# Altium schematic symbol library PBL - Integrated Circuits.SCHLIB: 64 symbols (part 1 of 2)
Pins are listed as number, name and electrical type; pins without a type are passive.

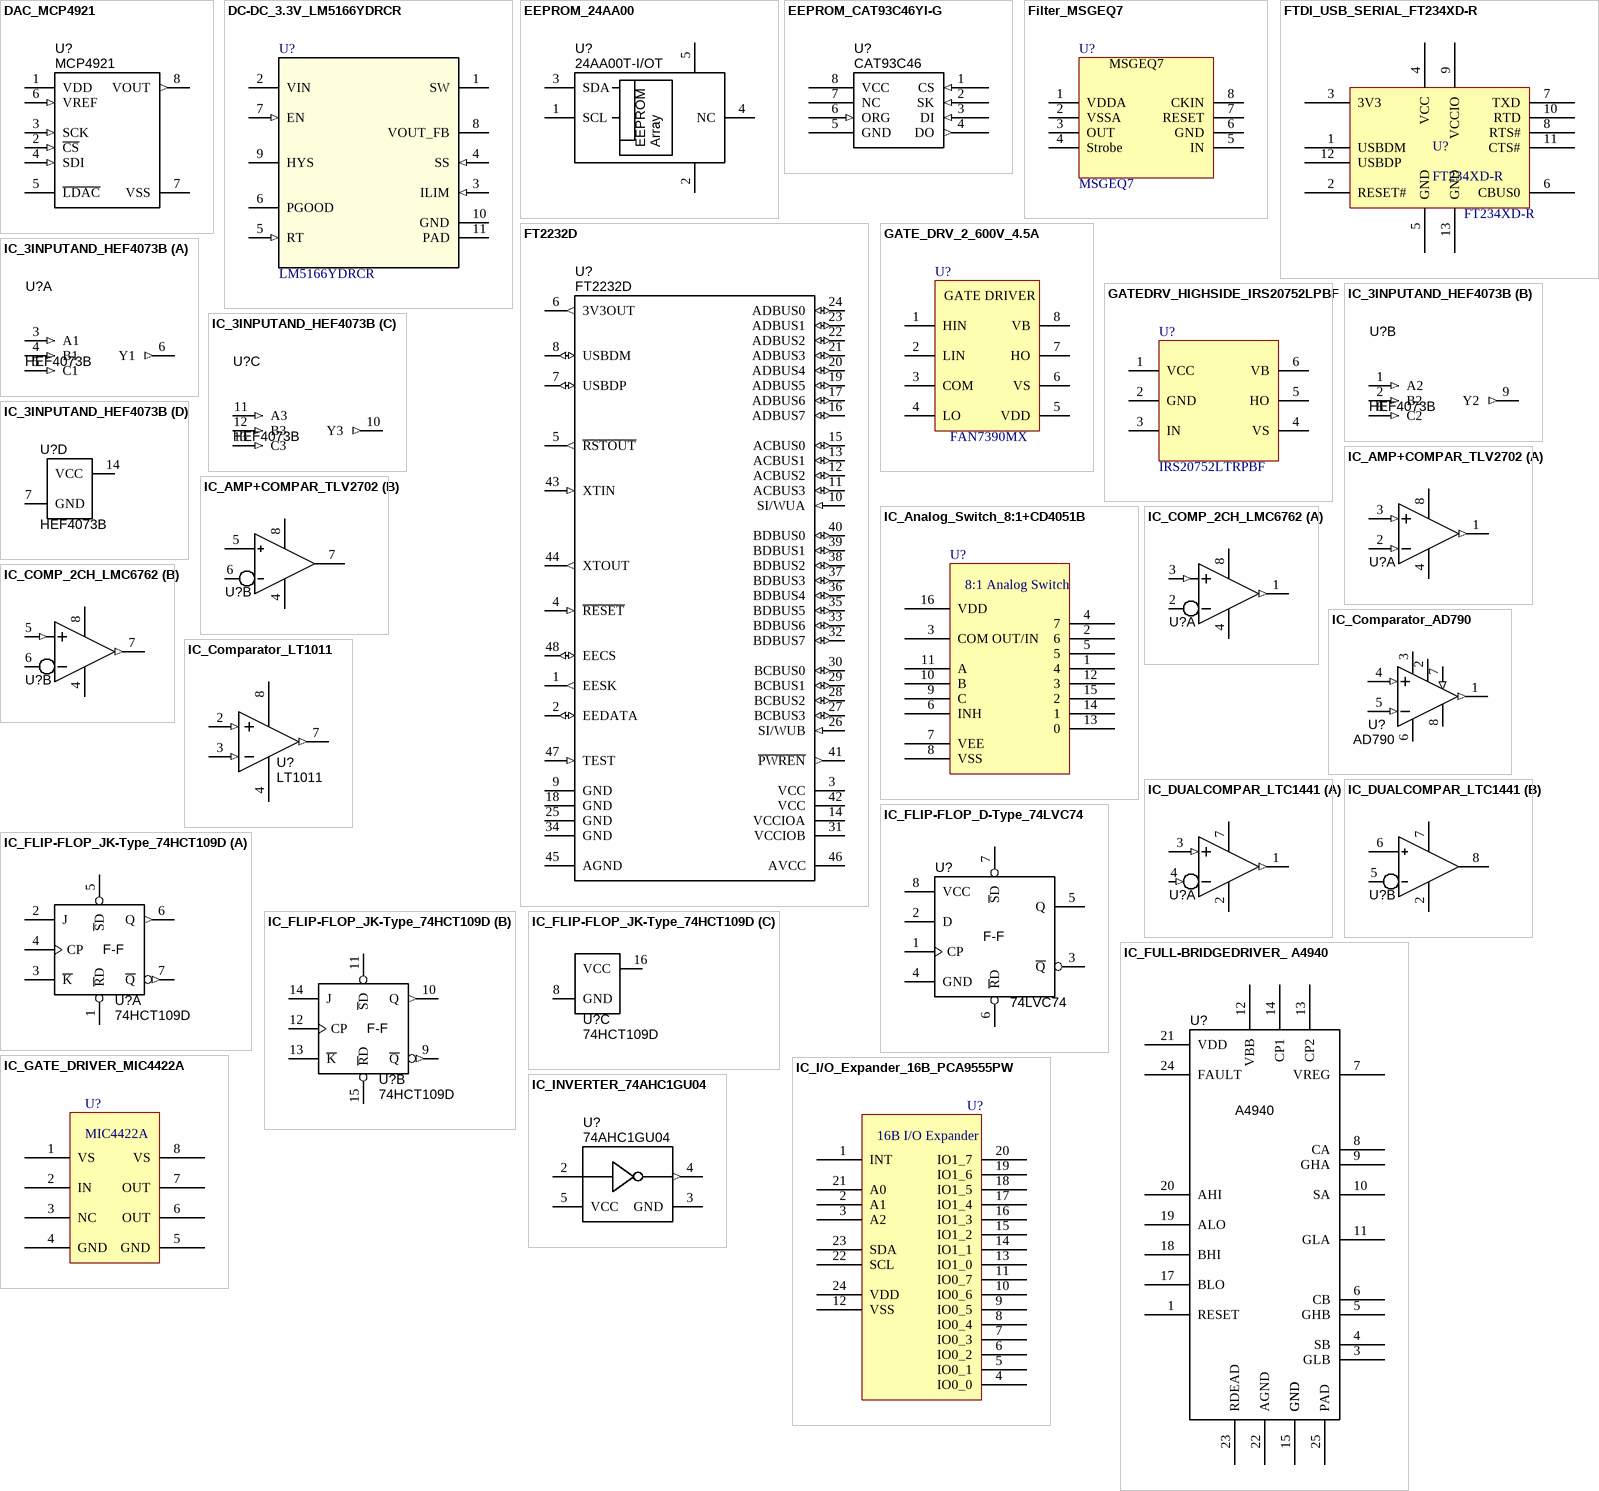
[diagram p0: symbols DAC_MCP4921 to IC_INVERTER_74AHC1GU04]

## DAC_MCP4921
designator U?, comment MCP4921
IC DAC 12-bit SPI 8-SOIC; Manufacturer 1: Microchip Technology; Manufacturer Part Number 1: MCP4921-E/SN; Speed: 4.5 µs; Interface: Serial, SPI; Voltage - Supply: 1.8 V ~ 5.5 V; Number of Bits: 12; Number of Converters: 1; SCDType: spec*; Operating Temperature: -40°C ~ 85°C; Package / Case: 8-SOIC (0.154", 3.90mm Width); Supplier 1: Digi-Key; Supplier Part Number 1: MCP4921-E/SN-ND
footprint SOIC127P600X175-8AN (SOIC, 8-Leads, Body 4.9x3.9mm, Pitch 1.27mm, IPC Medium Density)
pins: 1 VDD (power), 2 ~{CS} (in), 3 SCK (in), 4 SDI (in), 5 ~{LDAC} (power), 6 VREF (in), 7 VSS (power), 8 VOUT (out)

## DC-DC_3.3V_LM5166YDRCR
designator U?, comment LM5166YDRCR
Buck Switching Regulator IC Positive Fixed 3.3V 1 Output 500mA 10-VFDFN Exposed PadImported; Manufacturer: Texas Instruments; PartNumber: LM5166YDRCR; RefDes: RefDes; TYPE: TYPE; Value: Value; Manufacturer_Part_Number: LM5166YDRCR; Manufacturer_Name: Texas Instruments; Supplier 1: Digi-Key; Supplier Part Number 1: 296-47663-6-ND; Stock 1: 2280; Pricing 1: 1=3.48, 10=3.128, 100=2.5628, 500=2.1817, 1000=1.84 (USD); Number of Pins: 10; Min Operating Temperature: -40°C; Max Operating Temperature: 150°C; ComponentLink1URL: http://www.ti.com/lit/ds/symlink/lm5166.pdf; ComponentLink1Description: http://www.ti.com/lit/ds/symlink/lm5166.pdf; Manufacturer Part Number: LM5166YDRCR
footprint SON50P300X90_HS-11M (SON, 10-Leads, Body 3.00x3.00mm, Pitch 0.50mm, Thermal Pad 2.40x1.49mm, IPC Low Density)
pins: 1 SW (power), 2 VIN (power), 3 ILIM (in), 4 SS (in), 5 RT (in), 6 PGOOD (oc), 7 EN (in), 8 VOUT_FB, 9 HYS, 10 GND (power), 11 PAD (power)

## EEPROM_24AA00
designator U?, comment Manufacturer Part Number 1: 24AA00T-I/OT  (hidden comment: EEPROM)
EEPROM 128BIT 400KHZ SOT23-5; Manufacturer 1: Microchip Technology; Format - Memory: EEPROMs - Serial; Memory Size: 128 (16 x 8); Voltage - Supply: 1.7 V ~ 5.5 V; SCDType: spec*; Supplier 1: Digi-Key; Supplier Part Number 1: 24AA00T-I/OTCT-ND; RoHS: RoHS Compliant; Operating Temperature: -40°C ~ 85°C; Package / Case: SOT-23-5; Value: EEPROM
footprint SOT23-5
pins: 1 SCL, 2 GND, 3 SDA, 4 NC, 5 VCC
text: Array

## EEPROM_CAT93C46YI-G
designator U?, comment CAT93C46
EEPROM 1KBIT 2MHZ 8-TSSOP; Manufacturer 1: ON Semiconductor; Manufacturer Part Number 1: CAT93C46YI-G; Format - Memory: EEPROMs - Serial; Memory Size: 1K (128 x 8 or 64 x 16); Interface: Microwire, 3-Wire Serial; Voltage - Supply: 1.8 V ~ 5.5 V; Rule: UNIONINDEX{}0[]SOLDERMASKEXPANSIONMODE{}None[]PASTEMASKEXPANSIONMODE{}None[]RULEKIND{}Clearance[]NETSCOPE{}DifferentNets[]LAYERKIND{}SameLayer[]NAME{}Schematic Clearance Constraint[]GAP{}9.5mil[]UNIT{}Imperial[]PcbType{}ProtelPcb; SCDType: spec; Supplier 1: Digi-Key; Supplier Part Number 1: CAT93C46YI-G-ND; Memory Type: EEPROM; Speed: 2MHz; Operating Temperature: -40°C ~ 85°C; Package / Case: 8-TSSOP; Supplier Device Package: 8-TSSOP; ComponentLink1URL: http://www.onsemi.com/pub_link/Collateral/CAT93C46-D.PDF; ComponentLink1Description: http://www.onsemi.com/pub_link/Collateral/CAT93C46-D.PDF
footprint TSSOP65P640X120-8N (TSSOP, 8 Leads, Body 3.1x4.5mm (max), Pitch 0.65mm, IPC Medium Density)
pins: 1 CS (in), 2 SK (in), 3 DI (in), 4 DO (out), 5 GND (power), 6 ORG (in), 7 NC, 8 VCC (power)

## Filter_MSGEQ7
designator U?, comment MSGEQ7
Graphic Equalizer Display Filter - MSGEQ7; Manufacturer Part Number: MSGEQ7
footprint SOIC127P600X175-8AN (SOIC, 8-Leads, Body 4.9x3.9mm, Pitch 1.27mm, IPC Medium Density)
pins: 1 VDDA, 2 VSSA, 3 OUT, 4 Strobe, 5 IN, 6 GND, 7 RESET, 8 CKIN

## FT2232D
designator U?
Dual USB UART/FIFO Chip, LQFP-48; Manufacturer 1: FTDI, Future Technology Devices International Ltd; Manufacturer Part Number 1: FT2232D-REEL; Protocol: RS-232, RS-422, RS-485; Voltage - Supply: 4.35 V ~ 5.25 V; Rule: UNIONINDEX{}0[]SOLDERMASKEXPANSIONMODE{}None[]PASTEMASKEXPANSIONMODE{}None[]RULEKIND{}Clearance[]NETSCOPE{}DifferentNets[]LAYERKIND{}SameLayer[]NAME{}Schematic Clearance Constraint[]GAP{}7.874mil[]UNIT{}Metric[]PcbType{}ProtelPcb; SCDType: spec; DatasheetVersion: ver 2.05, Apr-2011; ComponentLink1Description: Manufacturer URL; ComponentLink1URL: http://www.ftdichip.com/; ComponentLink2Description: Datasheet; ComponentLink2URL: http://www.ftdichip.com/Support/Documents/DataSheets/ICs/DS_FT2232D.pdf; Supplier 1: Digi-Key; Supplier Part Number 1: 768-1010-1-ND; Package / Case: 48-LQFP
footprint LQFP-48_N (Thin QFP, 48-Leads, Body 7x7mm, Pitch 0.5mm, IPC Medium Density)
pins: 1 EESK (out), 2 EEDATA (io), 3 VCC (power), 4 ~{RESET} (in), 5 ~{RSTOUT} (out), 6 3V3OUT (out), 7 USBDP (io), 8 USBDM (io), 9 GND (power), 10 SI/WUA (in), 11 ACBUS3 (io), 12 ACBUS2 (io), 13 ACBUS1 (io), 14 VCCIOA (power), 15 ACBUS0 (io), 16 ADBUS7 (io), 17 ADBUS6 (io), 18 GND (power), 19 ADBUS5 (io), 20 ADBUS4 (io), 21 ADBUS3 (io), 22 ADBUS2 (io), 23 ADBUS1 (io), 24 ADBUS0 (io), 25 GND (power), 26 SI/WUB (in), 27 BCBUS3 (io), 28 BCBUS2 (io), 29 BCBUS1 (io), 30 BCBUS0 (io), 31 VCCIOB (power), 32 BDBUS7 (io), 33 BDBUS6 (io), 34 GND (power), 35 BDBUS5 (io), 36 BDBUS4 (io), 37 BDBUS3 (io), 38 BDBUS2 (io), 39 BDBUS1 (io), 40 BDBUS0 (io), 41 ~{PWREN} (out), 42 VCC (power), 43 XTIN (in), 44 XTOUT (out), 45 AGND (power), 46 AVCC (power), 47 TEST (in), 48 EECS (io)

## FTDI_USB_SERIAL_FT234XD-R
designator U?, comment FT234XD-R
IC USB SERIAL BASIC UART 12DFN; Manufacturer: FTDI; Internal Switch(s): 2.97 V ~ 5.5 V; Auxiliary Sense: -40°C ~ 85°C; Function: Bridge, USB to UART; Standards: USB 2.0; Current - Supply: 8mA; Dynamic Catalog: USB Controllers; Other Names: 768-1178-2 / FT234XDR; Supplier 1: Digi-Key; Supplier Part Number 1: 768-1178-1-ND; Stock 1: 62221; Pricing 1: 1=2.04, 25=1.97, 100=1.9, 250=1.71, 500=1.54, 1000=1.46, 2500=1.4214 (USD); Quantity Available: Tape & Reel (TR)Alternate Packaging; Minimum Quantity: USB; Type: UART; Standard Package: 5,000; Category: Integrated Circuits (ICs); Family: Interface - Controllers; Packaging: Tape & Reel (TR); Protocol: USB; Interface: UART; Voltage - Supply: 2.97 V ~ 5.5 V; Operating Temperature: -40°C ~ 85°C; Package / Case: 12-VFDFN Exposed Pad; Supplier Device Package: 12-DFN (3x3); ComponentLink1URL: https://datasheet.ciiva.com/15013/ds-ft234xd-15013687.pdf; ComponentLink1Description: https://datasheet.ciiva.com/15013/ds-ft234xd-15013687.pdf; ComponentLink2URL: https://datasheet.ciiva.com/15013/ds-ft234xd-15013688.pdf; ComponentLink2Description: https://datasheet.ciiva.com/15013/ds-ft234xd-15013688.pdf; ComponentLink3URL: https://datasheet.ciiva.com/15013/ds-ft234xd-15013689.pdf; ComponentLink3Description: https://datasheet.ciiva.com/15013/ds-ft234xd-15013689.pdf; ComponentLink4URL: https://datasheet.ciiva.com/46410/1812674-46410091.pdf; ComponentLink4Description: https://datasheet.ciiva.com/46410/1812674-46410091.pdf; Manufacturer Part Number: FT234XD-R
footprint DFN12 3x3
pins: 1 USBDM, 2 RESET#, 3 3V3, 4 VCC, 5 GND, 6 CBUS0, 7 TXD, 8 RTS#, 9 VCCIO, 10 RTD, 11 CTS#, 12 USBDP, 13 GND

## GATE_DRV_2_600V_4.5A
designator U?, comment FAN7390MX
Half-Bridge Gate Driver IC Non-Inverting 8-SOP; Manufacturer: Fairchild/ON Semiconductor; Channel Type: Independent; Gate Type: IGBT, N-Channel MOSFET; Voltage - Supply: 10 V ~ 22 V; Logic Voltage - VIL, VIH: 1.2V, 2.5V; Current - Peak Output (Source, Sink): 4.5A, 4.5A; Rise / Fall Time (Typ): 25ns, 20ns; Supplier 1: Digi-Key; Supplier Part Number 1: FAN7390MXCT-ND; RoHS: RoHS Compliant; Category: Integrated Circuits (ICs); Stock 1: 5064; Pricing 1: 1=1.79, 10=1.61, 100=1.2944, 500=1.06348, 1000=0.88117 (USD); Packaging: Cut Tape (CT); Part Status: Active; Driven Configuration: Half-Bridge; Input Type: Non-Inverting; Operating Temperature: -40°C ~ 150°C (TJ); Mounting Type: Surface Mount; Package / Case: 8-SOIC (0.154", 3.90mm Width); Supplier Device Package: 8-SOP; ComponentLink1URL: https://www.fairchildsemi.com/datasheets/FA/FAN7390.pdf; ComponentLink1Description: https://www.fairchildsemi.com/datasheets/FA/FAN7390.pdf; Manufacturer Part Number: FAN7390MX
footprint SOIC127P600X175-8AN (SOIC, 8-Leads, Body 4.9x3.9mm, Pitch 1.27mm, IPC Medium Density)
pins: 1 HIN, 2 LIN, 3 COM, 4 LO, 5 VDD, 6 VS, 7 HO, 8 VB
text: GATE DRIVER

## GATEDRV_HIGHSIDE_IRS20752LPBF
designator U?, comment IRS20752LTRPBF
High-Side Gate Driver IC Non-Inverting SOT-23-6; Manufacturer: Infineon Technologies; Channel Type: Single; Gate Type: N-Channel MOSFET; Voltage - Supply: 10 V ~ 18 V; Logic Voltage - VIL, VIH: 0.8V, 2.2V; Current - Peak Output (Source, Sink): 160mA, 240mA; Rise / Fall Time (Typ): 85ns, 40ns; Supplier 1: Digi-Key; Supplier Part Number 1: IRS20752LTRPBFCT-ND; RoHS: RoHS Compliant; Category: Integrated Circuits (ICs); Stock 1: 2832; Pricing 1: 1=0.87, 10=0.778, 100=0.6067, 500=0.50118, 1000=0.39567 (USD); Packaging: Cut Tape (CT); Part Status: Active; Driven Configuration: High-Side; Input Type: Non-Inverting; Operating Temperature: -40°C ~ 125°C (TJ); Mounting Type: Surface Mount; Package / Case: SOT-23-6; Supplier Device Package: SOT-23-6; ComponentLink1URL: https://www.infineon.com/dgdl/irs20752lpbf.pdf?fileId=5546d462533600a401535675e709278e; ComponentLink1Description: https://www.infineon.com/dgdl/irs20752lpbf.pdf?fileId=5546d462533600a401535675e709278e; Manufacturer Part Number: IRS20752LTRPBF
footprint SOT23-6
pins: 1 VCC, 2 GND, 3 IN, 4 VS, 5 HO, 6 VB

## IC_3INPUTAND_HEF4073B
designator U?, comment HEF4073B
IC SMD Triple 3-input AND SOIC-14; Manufacturer 1: NXP Semiconductors; Manufacturer Part Number 1: HEF4073BT,653; Logic Type: AND gate; Current - Output High, Low: 3mA, 3mA; Voltage - Supply: 3 V ~ 15 V; Ratings: -40°C ~ 85°C; SCDType: undef; Mounting Type: Surface Mount; Package / Case: 14-SOIC (0.154", 3.90mm Width); Supplier 1: Digi-Key; Supplier Part Number 1: 568-7700-1-ND; ComponentLink1URL: http://www.nxp.com/documents/data_sheet/HEF4073B_CNV.pdf; ComponentLink1Description: HEF4073B datasheet
footprint SOIC127P600X175-14AN (SOIC, 1.27mm pitch, 14 pin, Body 8.65x3.90mm)
part A pins: 3 A1 (in), 4 B1 (in), 5 C1 (in), 6 Y1 (out)
part B pins: 1 A2 (in), 2 B2 (in), 8 C2 (in), 9 Y2 (out)
part C pins: 10 Y3 (out), 11 A3 (in), 12 B3 (in), 13 C3 (in)
part D pins: 7 GND (power), 14 VCC (power)

## IC_AMP+COMPAR_TLV2702
designator U?, comment TLV2702  (value not drawn)
IC SMD AMP+COMPAR Combo SOIC-8; Manufacturer 1: Texas Instruments; Manufacturer Part Number 1: TLV2702ID; Voltage - Supply: 2.7 V ~ 16 V, ±1.35 V ~ 8 V; SCDType: undef; Package / Case: 8-SOIC (0.154", 3.90mm Width); Supplier 1: Digi-Key; Supplier Part Number 1: 296-12503-5-ND
footprint SOIC127P600X175-8AN (SOIC, 8-Leads, Body 4.9x3.9mm, Pitch 1.27mm, IPC Medium Density)
pins on every part: 4 -Vs (power), 8 +Vs (power)
part A pins: 1 Aout (out), 2 AIN - (in), 3 AIN + (in)
part B pins: 5 CIN +, 6  CIN-, 7 Cout

## IC_Analog_Switch_8:1+CD4051B
designator U?, comment CD4051BPWR  (value not drawn)
IC MUX/DEMUX 8X1 16TSSOP; Supplier 1: Digi-Key; Supplier Part Number 1: 296-11993-1-ND
footprint TSSOP65P640X120-16N (TSSOP, 16 Leads, Body 5.1x4.5mm (max), Pitch 0.65mm, IPC Medium Density)
pins: 1 4, 2 6, 3 COM OUT/IN, 4 7, 5, 6 INH, 7 VEE, 8 VSS, 9 C, 10 B, 11 A, 12 3, 13 0, 14 1, 15 2, 16 VDD
text: 8:1 Analog Switch

## IC_COMP_2CH_LMC6762
designator U?, comment LMC6762  (value not drawn)
IC Dual Rail-Rail PP Comparator SOIC-8 SMD; Manufacturer 1: National Semiconductor; Manufacturer Part Number 1: LMC6762BIM/NOPB; Voltage - Supply: 2.7 V ~ 16 V, ±1.35 V ~ 8 V; Number of Elements: 2; Output Type: Push-Pull, Rail-to-Rail; SCDType: spec; Package / Case: 8-SOIC (0.154", 3.90mm Width); Supplier 1: Digi-Key; Supplier Part Number 1: LMC6762BIM-ND; ComponentLink1URL: http://www.ti.com/lit/ds/symlink/lmc6762.pdf; ComponentLink1Description: http://www.ti.com/lit/ds/symlink/lmc6762.pdf
footprint SOIC127P600X175-8AN (SOIC, 8-Leads, Body 4.9x3.9mm, Pitch 1.27mm, IPC Medium Density)
pins on every part: 4 V- (power), 8 V+ (power)
part A pins: 1 OUT A (out), 2 IN A- (in), 3 IN A+ (in)
part B pins: 5 IN B+ (in), 6 IN B- (in), 7 OUT B (out)

## IC_Comparator_AD790
designator U?, comment AD790
IC SMD Voltage Comparator SOIC-8; Manufacturer 1: Analog Devices Inc; Manufacturer Part Number 1: AD790JRZ; Voltage - Supply: 2.7 V ~ 16 V, ±1.35 V ~ 8 V; SCDType: spec?; Package / Case: 8-SOIC (0.154", 3.90mm Width); Supplier 1: Digi-Key; Supplier Part Number 1: AD790JRZ-ND
footprint SOIC127P600X175-8AN (SOIC, 8-Leads, Body 4.9x3.9mm, Pitch 1.27mm, IPC Medium Density)
pins: 1 OUT (out), 2 Vlogic (power), 3 +Vs (power), 4 +IN (in), 5 -IN (in), 6 -Vs (power), 7 ~{Latch} (in), 8 GND (power)

## IC_Comparator_LT1011
designator U?, comment LT1011
IC SMD Voltage Comparator SOIC-8; Manufacturer 1: Linear Technology; Manufacturer Part Number 1: LT1011CS8#PBF; Voltage - Supply: 2.7 V ~ 16 V, ±1.35 V ~ 8 V; SCDType: undef; Supplier 1: Digi-Key; Supplier Part Number 1: LT1011CS8#PBF-ND; Package / Case: 8-SOIC (0.154", 3.90mm Width)
footprint SOIC127P600X175-8AN (SOIC, 8-Leads, Body 4.9x3.9mm, Pitch 1.27mm, IPC Medium Density)
pins: 2 IN+ (in), 3 IN- (in), 4 V- (power), 7 OUT (out), 8 V+ (power)

## IC_DUALCOMPAR_LTC1441
designator U?, comment LTC1441  (value not drawn)
IC SMD Dual Comparator SOIC-8; Manufacturer 1: Texas Instruments; Manufacturer Part Number 1: LTC1441CS8#PBF; Voltage - Supply: 2.7 V ~ 16 V, ±1.35 V ~ 8 V; SCDType: undef; Package / Case: 8-SOIC (0.154", 3.90mm Width); Supplier 1: Digi-Key; Supplier Part Number 1: LTC1441CS8#PBF-ND
footprint SOIC127P600X175-8AN (SOIC, 8-Leads, Body 4.9x3.9mm, Pitch 1.27mm, IPC Medium Density)
pins on every part: 2 V- (power), 7 V+ (power)
part A pins: 1 OUT A (out), 3 IN A+ (in), 4 IN A- (in)
part B pins: 5 IN B-, 6 IN B+, 8 Out B

## IC_FLIP-FLOP_D-Type_74LVC74
designator U?, comment 74LVC74
IC Flip-Flop D-type TSSOP-8 SMD; Manufacturer 1: NXP Semiconductors; Manufacturer Part Number 1: 74LVC2G74DP,125; SCDType: spec; Value: 74LVC74; Supplier 1: Digi-Key; Supplier Part Number 1: 568-7681-1-ND; Package / Case: 8-TSSOP (0.118", 3.00mm Width)
footprint TSSOP65P400X110-8N (TSSOP, 8 Leads, Body 3.1x3.1mm (max), lead span 4.0mm, Pitch 0.65mm, IPC Medium Density)
pins: 1 CP, 2 D, 3 ~{Q}, 4 GND, 5 Q, 6 ~{R}D, 7 ~{S}D, 8 VCC
text: F-F

## IC_FLIP-FLOP_JK-Type_74HCT109D
designator U?, comment 74HCT109D
IC Flip-Flop JK-type SOIC-16 SMD; Manufacturer 1: NXP Semiconductors; Manufacturer Part Number 1: 74HCT109D,653; SCDType: undef; Value: 74HCT109D; Package / Case: 16-SOIC (0.154", 3.90mm Width); ComponentLink1URL: http://www.nxp.com/documents/data_sheet/74HC_HCT109_CNV.pdf; ComponentLink1Description: 74HCT109D datasheet; Supplier 1: Digi-Key; Supplier Part Number 1: 568-4577-1-ND
footprint SOIC127P600X175-16AN (SOIC, 1.27mm pitch, 16 pin, Body 9.9x3.90mm)
part A pins: 1 ~{R}D, 2 J, 3 ~{K}, 4 CP, 5 ~{S}D, 6 Q (out), 7 ~{Q} (out)
part B pins: 9 ~{Q} (out), 10 Q (out), 11 ~{S}D, 12 CP, 13 ~{K}, 14 J, 15 ~{R}D
part C pins: 8 GND (power), 16 VCC (power)
part A text: F-F
part B text: F-F

## IC_FULL-BRIDGEDRIVER_ A4940
designator U?, comment A4940
24-pin TSSOP Automotive Full Bridge MOSFET Driver; Manufacturer Part Number 1: A4940KLPTR-T; Manufacturer 1: Allegro Microsystems Inc; Input Type: Non-Inverting; Voltage - Supply: 5.5 V ~ 50 V; SCDType: undef; Supplier 1: Digi-Key; Package / Case: 24-TSSOP (0.173", 4.40mm Width) Exposed Pad; Supplier Part Number 1: 620-1319-1-ND; ComponentLink1URL: http://www.allegromicro.com/en/Products/Part_Numbers/4940/4940.pdf; ComponentLink1Description: A4940 Datasheet
footprint SOP65P640X110-25N (TSSOP, 24-Leads, Body 7.9x4.5mm (max), Pitch 0.65mm, IPC Medium Density; JEDEC MO-153)
pins: 1 RESET "reset input", 2 GND (power) "ground", 3 GLB "low-side gate drive B", 4 SB "load connection B", 5 GHB "high-side gate drive B", 6 CB "bootstrap capacitor B", 7 VREG "regulated 13V ouput", 8 CA "bootstrap capacitor A", 9 GHA "high-side gate drive A", 10 SA "load connection A", 11 GLA "low-side gate drive A", 12 VBB (power) "main supply", 13 CP2 "pump capacitor", 14 CP1 "pump capacitor", 15 GND (power) "ground", 16 GND (power) "ground", 17 BLO "control input B low side", 18 BHI "control input B high side", 19 ALO "control input A low side", 20 AHI "control input A high side", 21 VDD (power) "logic supply", 22 AGND (power) "ground reference", 23 RDEAD "dead time setting input", 24 FAULT "fault output", 25 PAD (power) "exposed die pad"

## IC_GATE_DRIVER_MIC4422A
designator U?, comment MIC4422A
IC DRIVER MOSFET 9A LS 8-DIP; Supplier 1: Digi-Key; Supplier Part Number 1: 576-2318-ND
footprint SOIC127P600X175-8AN (SOIC, 8-Leads, Body 4.9x3.9mm, Pitch 1.27mm, IPC Medium Density)
pins: 1 VS, 2 IN, 3 NC, 4 GND, 5 GND, 6 OUT, 7 OUT, 8 VS

## IC_I/O_Expander_16B_PCA9555PW
designator U?, comment PCA9555PW,118  (value not drawn)
IC I/O EXPANDER I2C 16B 24TSSOP; Supplier 1: Digi-Key; Supplier Part Number 1: 568-1058-1-ND
footprint TSOP65P640X110-24N (TSOP, 24-Leads, Body 7.80x4.40mm, Pitch 0.65mm, IPC Medium Density)
pins: 1 INT, 2 A1, 3 A2, 4 IO0_0, 5 IO0_1, 6 IO0_2, 7 IO0_3, 8 IO0_4, 9 IO0_5, 10 IO0_6, 11 IO0_7, 12 VSS, 13 IO1_0, 14 IO1_1, 15 IO1_2, 16 IO1_3, 17 IO1_4, 18 IO1_5, 19 IO1_6, 20 IO1_7, 21 A0, 22 SCL, 23 SDA, 24 VDD
text: 16B I/O Expander

## IC_INVERTER_74AHC1GU04
designator U?, comment 74AHC1GU04
IC Inverter SOT353 SMD; Manufacturer 1: NXP Semiconductors; Manufacturer Part Number 1: 74AHC1GU04GW,125; Voltage - Supply: 2 V ~ 5.5 V; SCDType: undef; Package / Case: 6-TSSOP (5 Lead), SC-88A, SOT-353; ComponentLink1URL: http://www.nxp.com/documents/data_sheet/74AHC1GU04.pdf; ComponentLink1Description: 74AHC1GU04 datasheet; Supplier 1: Digi-Key; Supplier Part Number 1: 568-4825-1-ND
footprint SOT353 (Small outline 2.1mm L x 1.25mm W x 1mm H; 5LD SC-70; SC-88A)
pins: 2 A, 3 GND (power), 4 Y (out), 5 VCC (power)

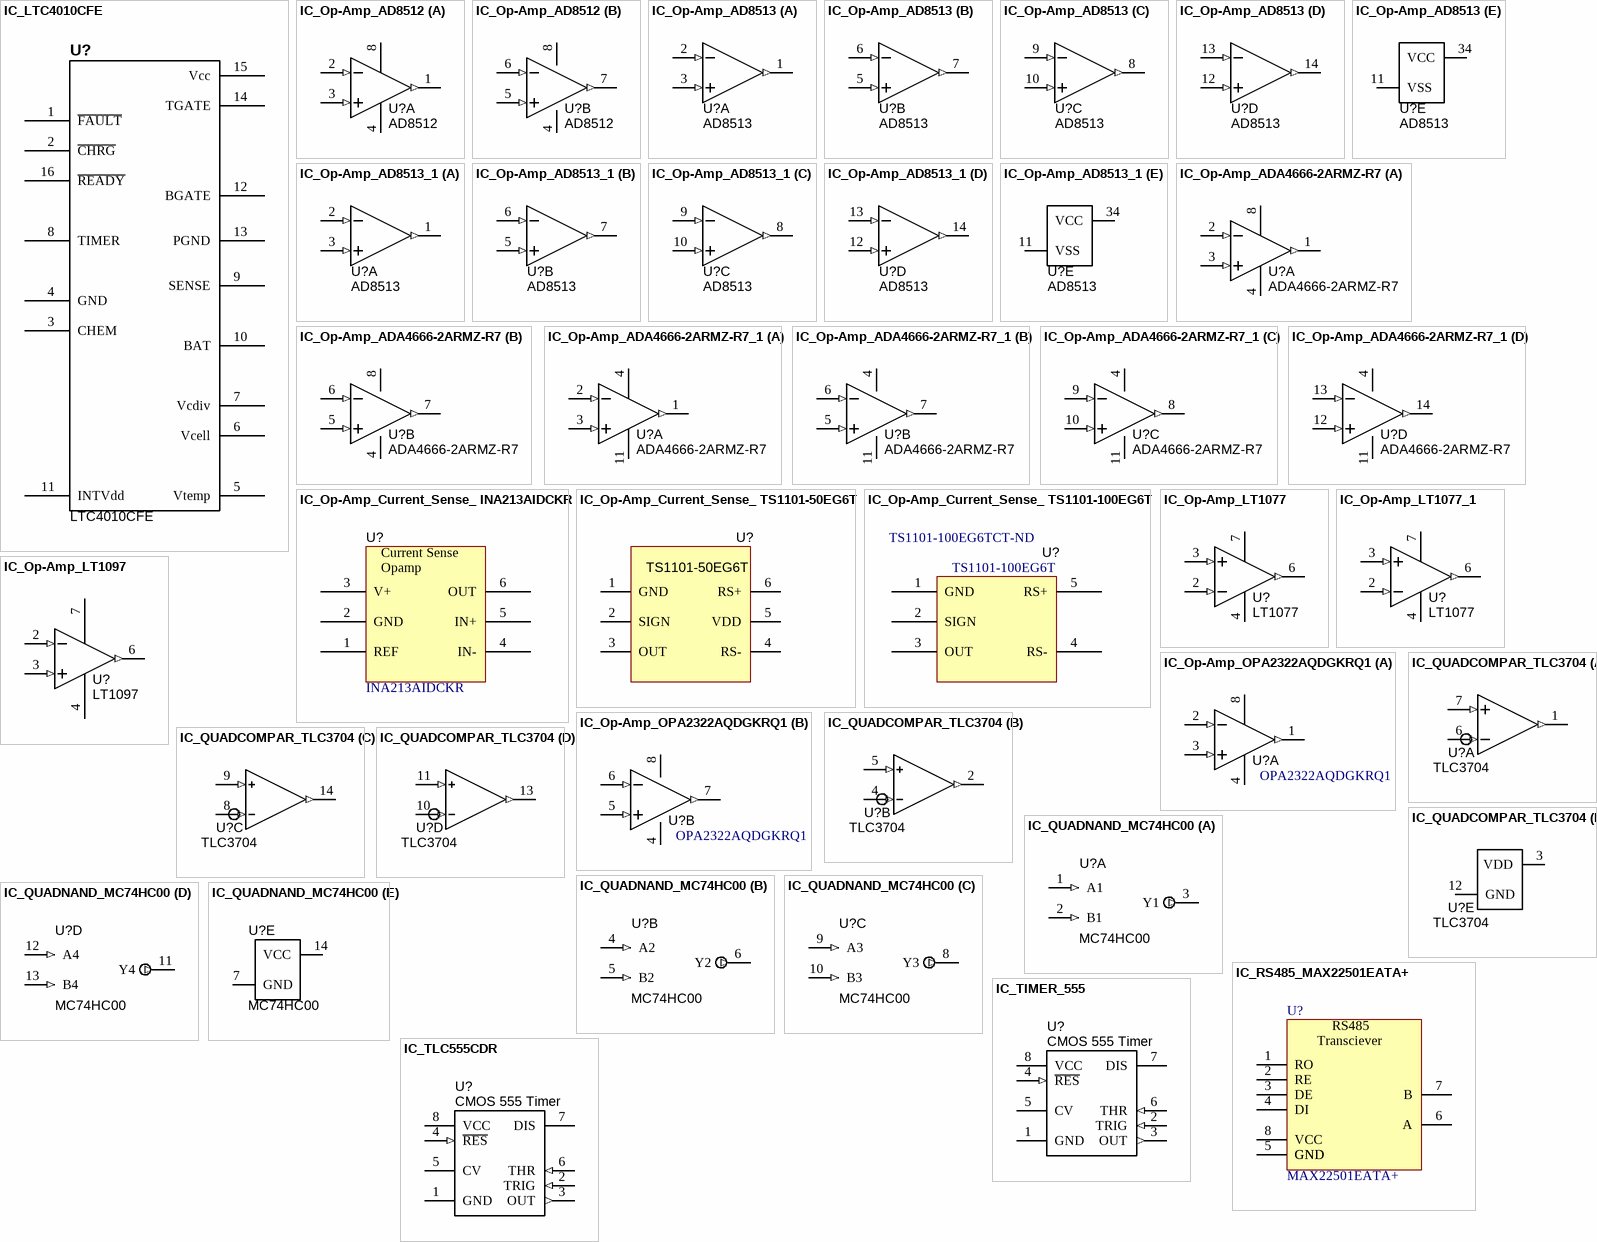
[diagram p1: symbols IC_LTC4010CFE to IC_TLC555CDR]

## IC_LTC4010CFE
designator U?, comment LTC4010CFE
IC Battery Charge Controller; Manufacturer 1: Linear Technology; Manufacturer Part Number 1: LTC4010CFE#PBF; SCDType: undef; Package / Case: 16-TSSOP-EP; Material: Si; Supplier 1: Digi-Key; Supplier Part Number 1: LTC4010CFE#PBF-ND
footprint TSSOP65P640X120-17N (TSSOP, 16 Leads with exposed body pad, Body 5.1x4.5mm (max), Pitch 0.65mm, IPC Medium Density)
pins: 1 ~{FAULT} "Active-low fault indicator output", 2 ~{CHRG} "Active-low charge indicator output", 3 CHEM "Battery chemistry selection input", 4 GND "Ground", 5 Vtemp "Battery temperature input", 6 Vcell "Average single-cell voltage input", 7 Vcdiv "Average cell voltage resistor divider termination", 8 TIMER "Charge timer input", 9 SENSE "Charge current sense input", 10 BAT "Battery pack connection", 11 INTVdd "Internal 5V regulator output", 12 BGATE "External synchronous N-channel MOSFET gate control output", 13 PGND "Power ground", 14 TGATE "External P-channel MOSFET gate control output", 15 Vcc "Power input", 16 ~{READY} "Active-low ready-to-charge output", 17 GND "Ground"

## IC_Op-Amp_AD8512
designator U?, comment AD8512
IC SMD Low Cost Op Amp SOIC-8; Manufacturer 1: Analog Devices Inc; Manufacturer Part Number 1: AD8512BRZ; Voltage - Supply: 2.7 V ~ 16 V, ±1.35 V ~ 8 V; SCDType: spec?; Package / Case: 8-SOIC (0.154", 3.90mm Width); Supplier 1: Digi-Key; Supplier Part Number 1: AD8512BRZ-ND
footprint SOIC127P600X175-8AN (SOIC, 8-Leads, Body 4.9x3.9mm, Pitch 1.27mm, IPC Medium Density)
pins on every part: 4 V- (power), 8 V+ (power)
part A pins: 1 OUT (out), 2 IN- (in), 3 IN+ (in)
part B pins: 5 IN+ (in), 6 IN- (in), 7 OUT (out)

## IC_Op-Amp_AD8513
designator U?, comment AD8513
IC Op Amp JFET 8MHz Quad TSSOP-14 SMD; Manufacturer 1: Analog Devices Inc; Manufacturer Part Number 1: AD8513ARUZ; Voltage - Supply, Single/Dual (±): ±4.5 V ~ 18 V; SCDType: spec?; Package / Case: 14-TSSOP (0.173", 4.40mm Width); Supplier 1: Digi-Key; Supplier Part Number 1: AD8513ARUZ-ND
footprint TSSOP65P640X120-14N (TSSOP, 14-Leads, Body 5.0x4.5mm (max), Pitch 0.65mm, IPC Medium Density)
part A pins: 1 OUT (out), 2 IN- (in), 3 IN+ (in)
part B pins: 5 IN+ (in), 6 IN- (in), 7 OUT (out)
part C pins: 8 OUT (out), 9 IN- (in), 10 IN+ (in)
part D pins: 12 IN+ (in), 13 IN- (in), 14 OUT (out)
part E pins: 11 VSS (power), 34 VCC (power)

## IC_Op-Amp_AD8513_1
designator U?, comment AD8513
IC Op Amp JFET 8MHz Quad TSSOP-14 SMD; Manufacturer 1: Analog Devices Inc; Manufacturer Part Number 1: AD8513ARUZ; Voltage - Supply, Single/Dual (±): ±4.5 V ~ 18 V; SCDType: spec?; Package / Case: 14-TSSOP (0.173", 4.40mm Width); Supplier 1: Digi-Key; Supplier Part Number 1: AD8513ARUZ-ND
footprint TSSOP65P640X120-14N (TSSOP, 14-Leads, Body 5.0x4.5mm (max), Pitch 0.65mm, IPC Medium Density)
part A pins: 1 OUT (out), 2 IN- (in), 3 IN+ (in)
part B pins: 5 IN+ (in), 6 IN- (in), 7 OUT (out)
part C pins: 8 OUT (out), 9 IN- (in), 10 IN+ (in)
part D pins: 12 IN+ (in), 13 IN- (in), 14 OUT (out)
part E pins: 11 VSS (power), 34 VCC (power)

## IC_Op-Amp_ADA4666-2ARMZ-R7
designator U?, comment ADA4666-2ARMZ-R7
General Purpose Amplifier Circuit Rail-to-Rail 8-MSOP; Manufacturer: Analog Devices Inc.; Slew Rate: 2 V/µs; -3db Bandwidth: 2.1MHz; Current - Supply: 630µA; Current - Output / Channel: 220mA; Voltage - Supply, Single/Dual (±): 3 V ~ 18 V, ±1.5 V ~ 9 V; Supplier 1: Digi-Key; Supplier Part Number 1: ADA4666-2ARMZ-R7CT-ND; RoHS: RoHS Compliant; Category: Integrated Circuits (ICs); Stock 1: 26; Pricing 1: 1=2.73, 10=2.454, 100=1.9721, 500=1.62026 (USD); Packaging: Cut Tape (CT); Part Status: Active; Amplifier Type: General Purpose; Output Type: Rail-to-Rail; Operating Temperature: -40°C ~ 125°C; Mounting Type: Surface Mount; Package / Case: 8-TSSOP, 8-MSOP (0.118", 3.00mm Width); Supplier Device Package: 8-MSOP; ComponentLink1URL: http://www.analog.com/media/en/technical-documentation/data-sheets/ADA4666-2.pdf; ComponentLink1Description: http://www.analog.com/media/en/technical-documentation/data-sheets/ADA4666-2.pdf; Manufacturer Part Number: ADA4666-2ARMZ-R7
footprint SOP65P490X109-8N (SOP, 0.65mm pitch, 8 pin, Body 3.0x3.0x1.09mm LWH, IPC Medium Density)
pins on every part: 4 V- (power), 8 V+ (power)
part A pins: 1 OUT (out), 2 IN- (in), 3 IN+ (in)
part B pins: 5 IN+ (in), 6 IN- (in), 7 OUT (out)

## IC_Op-Amp_ADA4666-2ARMZ-R7_1
designator U?, comment ADA4666-2ARMZ-R7
General Purpose Amplifier Circuit Rail-to-Rail 8-MSOP; Manufacturer: Analog Devices Inc.; Slew Rate: 2 V/µs; -3db Bandwidth: 2.1MHz; Current - Supply: 630µA; Current - Output / Channel: 220mA; Voltage - Supply, Single/Dual (±): 3 V ~ 18 V, ±1.5 V ~ 9 V; Supplier 1: Digi-Key; Supplier Part Number 1: ADA4666-2ARMZ-R7CT-ND; RoHS: RoHS Compliant; Category: Integrated Circuits (ICs); Stock 1: 26; Pricing 1: 1=2.73, 10=2.454, 100=1.9721, 500=1.62026 (USD); Packaging: Cut Tape (CT); Part Status: Active; Amplifier Type: General Purpose; Output Type: Rail-to-Rail; Operating Temperature: -40°C ~ 125°C; Mounting Type: Surface Mount; Package / Case: 8-TSSOP, 8-MSOP (0.118", 3.00mm Width); Supplier Device Package: 8-MSOP; ComponentLink1URL: http://www.analog.com/media/en/technical-documentation/data-sheets/ADA4666-2.pdf; ComponentLink1Description: http://www.analog.com/media/en/technical-documentation/data-sheets/ADA4666-2.pdf; Manufacturer Part Number: ADA4666-2ARMZ-R7
footprint SOP65P490X109-8N (SOP, 0.65mm pitch, 8 pin, Body 3.0x3.0x1.09mm LWH, IPC Medium Density)
pins on every part: 4 V+ (power), 11 V- (power)
part A pins: 1 OUT (out), 2 IN- (in), 3 IN+ (in)
part B pins: 5 IN+ (in), 6 IN- (in), 7 OUT (out)
part C pins: 8 OUT (out), 9 IN- (in), 10 IN+ (in)
part D pins: 12 IN+ (in), 13 IN- (in), 14 OUT (out)

## IC_Op-Amp_Current_Sense_ INA213AIDCKR
designator U?, comment INA213AIDCKR
Current Sense Amplifier 1 Circuit  SC-70-6. Gain 50V/V; Manufacturer: Texas Instruments; Slew Rate: 0.4 V/µs; Current - Supply: 65µA; Voltage - Supply, Single/Dual (±): 2.7 V ~ 26 V; Supplier 1: Digi-Key; Supplier Part Number 1: 296-26072-1-ND; RoHS: RoHS Compliant; Category: Integrated Circuits (ICs); Stock 1: 130429; Pricing 1: 1=1.5, 10=1.337, 100=1.0424, 500=0.86108, 1000=0.6798 (USD); Packaging: Cut Tape (CT); Part Status: Active; Amplifier Type: Current Sense; Output Type: -; Operating Temperature: -40°C ~ 125°C; Mounting Type: Surface Mount; Package / Case: 6-TSSOP, SC-88, SOT-363; Supplier Device Package: SC-70-6; Base Part Number: INA213; ComponentLink1URL: http://www.ti.com/lit/ds/symlink/ina211.pdf; ComponentLink1Description: http://www.ti.com/lit/ds/symlink/ina211.pdf; Manufacturer Part Number: INA213AIDCKR
footprint SC70-6 (SC70-6; SOT-363)
pins: 1 REF, 2 GND, 3 V+, 4 IN-, 5 IN+, 6 OUT
text: Opamp

## IC_Op-Amp_Current_Sense_ TS1101-50EG6T
designator U?, comment TS1101-50EG6T
IC AMP PREC CS BIDIR 50V SOT23-6; Supplier 1: Digi-Key; Supplier Part Number 1: 336-3367-1-ND
footprint SOT23-6
pins: 1 GND, 2 SIGN, 3 OUT, 4 RS-, 5 VDD, 6 RS+

## IC_Op-Amp_Current_Sense_ TS1101-100EG6T
designator U?, comment Supplier Part Number 1: TS1101-100EG6TCT-ND  (hidden comment: TS1101-100EG6T)
IC AMP PREC CS BID 100V SOT23-6; Supplier 1: Digi-Key; Model Number: TS1101-100EG6T
footprint SOT23-5
pins: 1 GND, 2 SIGN, 3 OUT, 4 RS-, 5 RS+

## IC_Op-Amp_LT1077
designator U?, comment LT1077
IC SMD Op Amp Precision Micropower SOIC-8; Manufacturer 1: Linear Technology; Manufacturer Part Number 1: LT1077IS8#PBF; Voltage - Supply: 2.2 V ~ 30 V, ±1.1 V ~ 15 V; Gain Bandwidth Product: 230kHz; SCDType: spec; Package / Case: 8-SOIC (0.154", 3.90mm Width); Supplier 1: Digi-Key; Supplier Part Number 1: LT1077IS8#PBF-ND
footprint SOIC127P600X175-8AN (SOIC, 8-Leads, Body 4.9x3.9mm, Pitch 1.27mm, IPC Medium Density)
pins: 2 IN- (in), 3 IN+ (in), 4 V- (power), 6 OUT (out), 7 V+ (power)

## IC_Op-Amp_LT1077_1
designator U?, comment LT1077
IC SMD Op Amp Precision Micropower SOIC-8; Manufacturer 1: Linear Technology; Manufacturer Part Number 1: LT1077IS8#PBF; Voltage - Supply: 2.2 V ~ 30 V, ±1.1 V ~ 15 V; Gain Bandwidth Product: 230kHz; SCDType: spec; Package / Case: 8-SOIC (0.154", 3.90mm Width); Supplier 1: Digi-Key; Supplier Part Number 1: LT1077IS8#PBF-ND
footprint SOIC127P600X175-8AN (SOIC, 8-Leads, Body 4.9x3.9mm, Pitch 1.27mm, IPC Medium Density)
pins: 2 IN- (in), 3 IN+ (in), 4 V- (power), 6 OUT (out), 7 V+ (power)

## IC_Op-Amp_LT1097
designator U?, comment LT1097
IC SMD Low Cost Op Amp SOIC-8; Manufacturer 1: Linear Technology; Manufacturer Part Number 1: LT1097S8#PBF; Voltage - Supply: 2.7 V ~ 16 V, ±1.35 V ~ 8 V; SCDType: undef; Package / Case: 8-SOIC (0.154", 3.90mm Width)
footprint SOIC127P600X175-8AN (SOIC, 8-Leads, Body 4.9x3.9mm, Pitch 1.27mm, IPC Medium Density)
pins: 2 IN- (in), 3 IN+ (in), 4 V- (power), 6 OUT (out), 7 V+ (power)

## IC_Op-Amp_OPA2322AQDGKRQ1
designator U?, comment OPA2322AQDGKRQ1
General Purpose Amplifier 2 Circuit Rail-to-Rail 8-VSSOP; Manufacturer: Texas Instruments; Slew Rate: 10 V/µs; Current - Supply: 1.5mA; Voltage - Supply, Single/Dual (±): 1.8 V ~ 5.5 V; Supplier 1: Digi-Key; Supplier Part Number 1: 296-43263-1-ND; RoHS: RoHS Compliant; Category: Integrated Circuits (ICs); Stock 1: 2024; Pricing 1: 1=2.68, 10=2.41, 100=1.9372, 500=1.5916, 1000=1.31876 (USD); Packaging: Cut Tape (CT); Part Status: Active; Amplifier Type: General Purpose; Output Type: Rail-to-Rail; Operating Temperature: -40°C ~ 125°C; Mounting Type: Surface Mount; Package / Case: 8-TSSOP, 8-MSOP (0.118", 3.00mm Width); Supplier Device Package: 8-VSSOP; ComponentLink1URL: http://www.ti.com/lit/ds/symlink/opa2322-q1.pdf; ComponentLink1Description: http://www.ti.com/lit/ds/symlink/opa2322-q1.pdf; Manufacturer Part Number: OPA2322AQDGKRQ1
footprint TSOP65P510X110-8N (TSOP, 8-Leads, Body 3.00x3.00mm, Pitch 0.65mm, IPC Medium Density)
pins on every part: 4 V- (power), 8 V+ (power)
part A pins: 1 OUT (out), 2 IN- (in), 3 IN+ (in)
part B pins: 5 IN+ (in), 6 IN- (in), 7 OUT (out)

## IC_QUADCOMPAR_TLC3704
designator U?, comment TLC3704
IC SMD Quad Comparator SOIC-14; Manufacturer 1: Texas Instruments; Manufacturer Part Number 1: TLC3704QDRG4Q1; Voltage - Supply: 2.7 V ~ 16 V, ±1.35 V ~ 8 V; SCDType: spec; Package / Case: 14-SOIC (0.154", 3.90mm Width); Supplier 1: Digi-Key; Supplier Part Number 1: 296-23711-1-ND
footprint SOIC127P600X175-14AN (SOIC, 1.27mm pitch, 14 pin, Body 8.65x3.90mm)
part A pins: 1 1OUT (out), 6 1IN - (in), 7 1IN + (in)
part B pins: 2 2OUT (out), 4 2IN - (in), 5 2IN + (in)
part C pins: 8 3IN - (in), 9 3IN+ (in), 14 3OUT (out)
part D pins: 10 4IN - (in), 11 4IN + (in), 13 4OUT (out)
part E pins: 3 VDD (power), 12 GND (power)

## IC_QUADNAND_MC74HC00
designator U?, comment MC74HC00
IC SMD Quad NAND SOIC-14; Manufacturer 1: ON Semiconductor; Manufacturer Part Number 1: MC74HC00ADG; Current - Output High, Low: 5.2mA, 5.2mA; Voltage - Supply: 2 V ~ 6 V; Ratings: -40°C ~ 85°C; 5.2mA; SCDType: spec; Logic Type: NAND; Mounting Type: Surface Mount; Package / Case: SOIC-14; Supplier 1: Digi-Key; Supplier Part Number 1: MC74HC00ADGOS-ND
footprint SOIC127P600X175-14AN (SOIC, 1.27mm pitch, 14 pin, Body 8.65x3.90mm)
part A pins: 1 A1 (in), 2 B1 (in), 3 Y1 (out)
part B pins: 4 A2 (in), 5 B2 (in), 6 Y2 (out)
part C pins: 8 Y3 (out), 9 A3 (in), 10 B3 (in)
part D pins: 11 Y4 (out), 12 A4 (in), 13 B4 (in)
part E pins: 7 GND (power), 14 VCC (power)

## IC_RS485_MAX22501EATA+
designator U?, comment MAX22501EATA+
1/1 Transceiver Half RS422, RS485 8-TDFN (3x3); Manufacturer: Maxim; Supplier 1: Digi-Key; Supplier Part Number 1: MAX22501EATA+-ND; Stock 1: 65; Pricing 1: 1=2.2, 10=2.09, 25=2.0336 (USD); Manufacturer Part Number: MAX22501EATA+
footprint SON65P300X90_HS-9M (SON, 8-Leads, Body 3.00x3.00mm, Pitch 0.65mm, Thermal Pad 2.30x1.50mm, IPC Low Density)
pins: 1 RO, 2 RE, 3 DE, 4 DI, 5 GND, 6 A, 7 B, 8 VCC, 9 GND
text: RS485; Transciever

## IC_TIMER_555
designator U?, comment CMOS 555 Timer
IC CMOS 555 Timer SOIC-8 SMD; Manufacturer 1: NXP Semiconductors; Manufacturer Part Number 1: ICM7555CD/01,118; Voltage - Supply: 4.5 - 16; Frequency: 500kHz; Current - Supply: 180µA; SCDType: source; Package / Case: 8-SOIC (0.154", 3.90mm Width); Operating Temperature: 0°C ~ 70°C; Supplier 1: Digi-Key; Supplier Part Number 1: 568-1818-1-ND; Type: 555 Type, Timer/Oscillator (Single); Mounting Type: Surface Mount; ComponentLink1URL: http://www.nxp.com/documents/data_sheet/ICM7555.pdf; ComponentLink1Description: http://www.nxp.com/documents/data_sheet/ICM7555.pdf
footprint SOIC127P600X175-8AN (SOIC, 8-Leads, Body 4.9x3.9mm, Pitch 1.27mm, IPC Medium Density)
pins: 1 GND (power), 2 TRIG (in), 3 OUT (out), 4 ~{RES} (in), 5 CV, 6 THR (in), 7 DIS, 8 VCC (power)

## IC_TLC555CDR
designator U?, comment CMOS 555 Timer
IC CMOS 555 Timer SOIC-8 SMD; Manufacturer 1: Texas Instruments; Manufacturer Part Number 1: TLC555CDG4; Voltage - Supply: 4.5 - 16; Frequency: 2100kHz; Current - Supply: 180µA; SCDType: source; Package / Case: 8-SOIC (0.154", 3.90mm Width); Operating Temperature: 0°C ~ 70°C; Type: 555 Type, Timer/Oscillator (Single); Mounting Type: Surface Mount; Count: -; ComponentLink1URL: http://www.ti.com/lit/ds/symlink/tlc555.pdf; ComponentLink1Description: http://www.ti.com/lit/ds/symlink/tlc555.pdf; Supplier 1: Digi-Key; Supplier Part Number 1: TLC555CDG4-ND; RoHS 1: RoHS Compliant; Ratings: 2100kHz
footprint SOIC127P600X175-8AN (SOIC, 8-Leads, Body 4.9x3.9mm, Pitch 1.27mm, IPC Medium Density)
pins: 1 GND (power), 2 TRIG (in), 3 OUT (out), 4 ~{RES} (in), 5 CV, 6 THR (in), 7 DIS, 8 VCC (power)

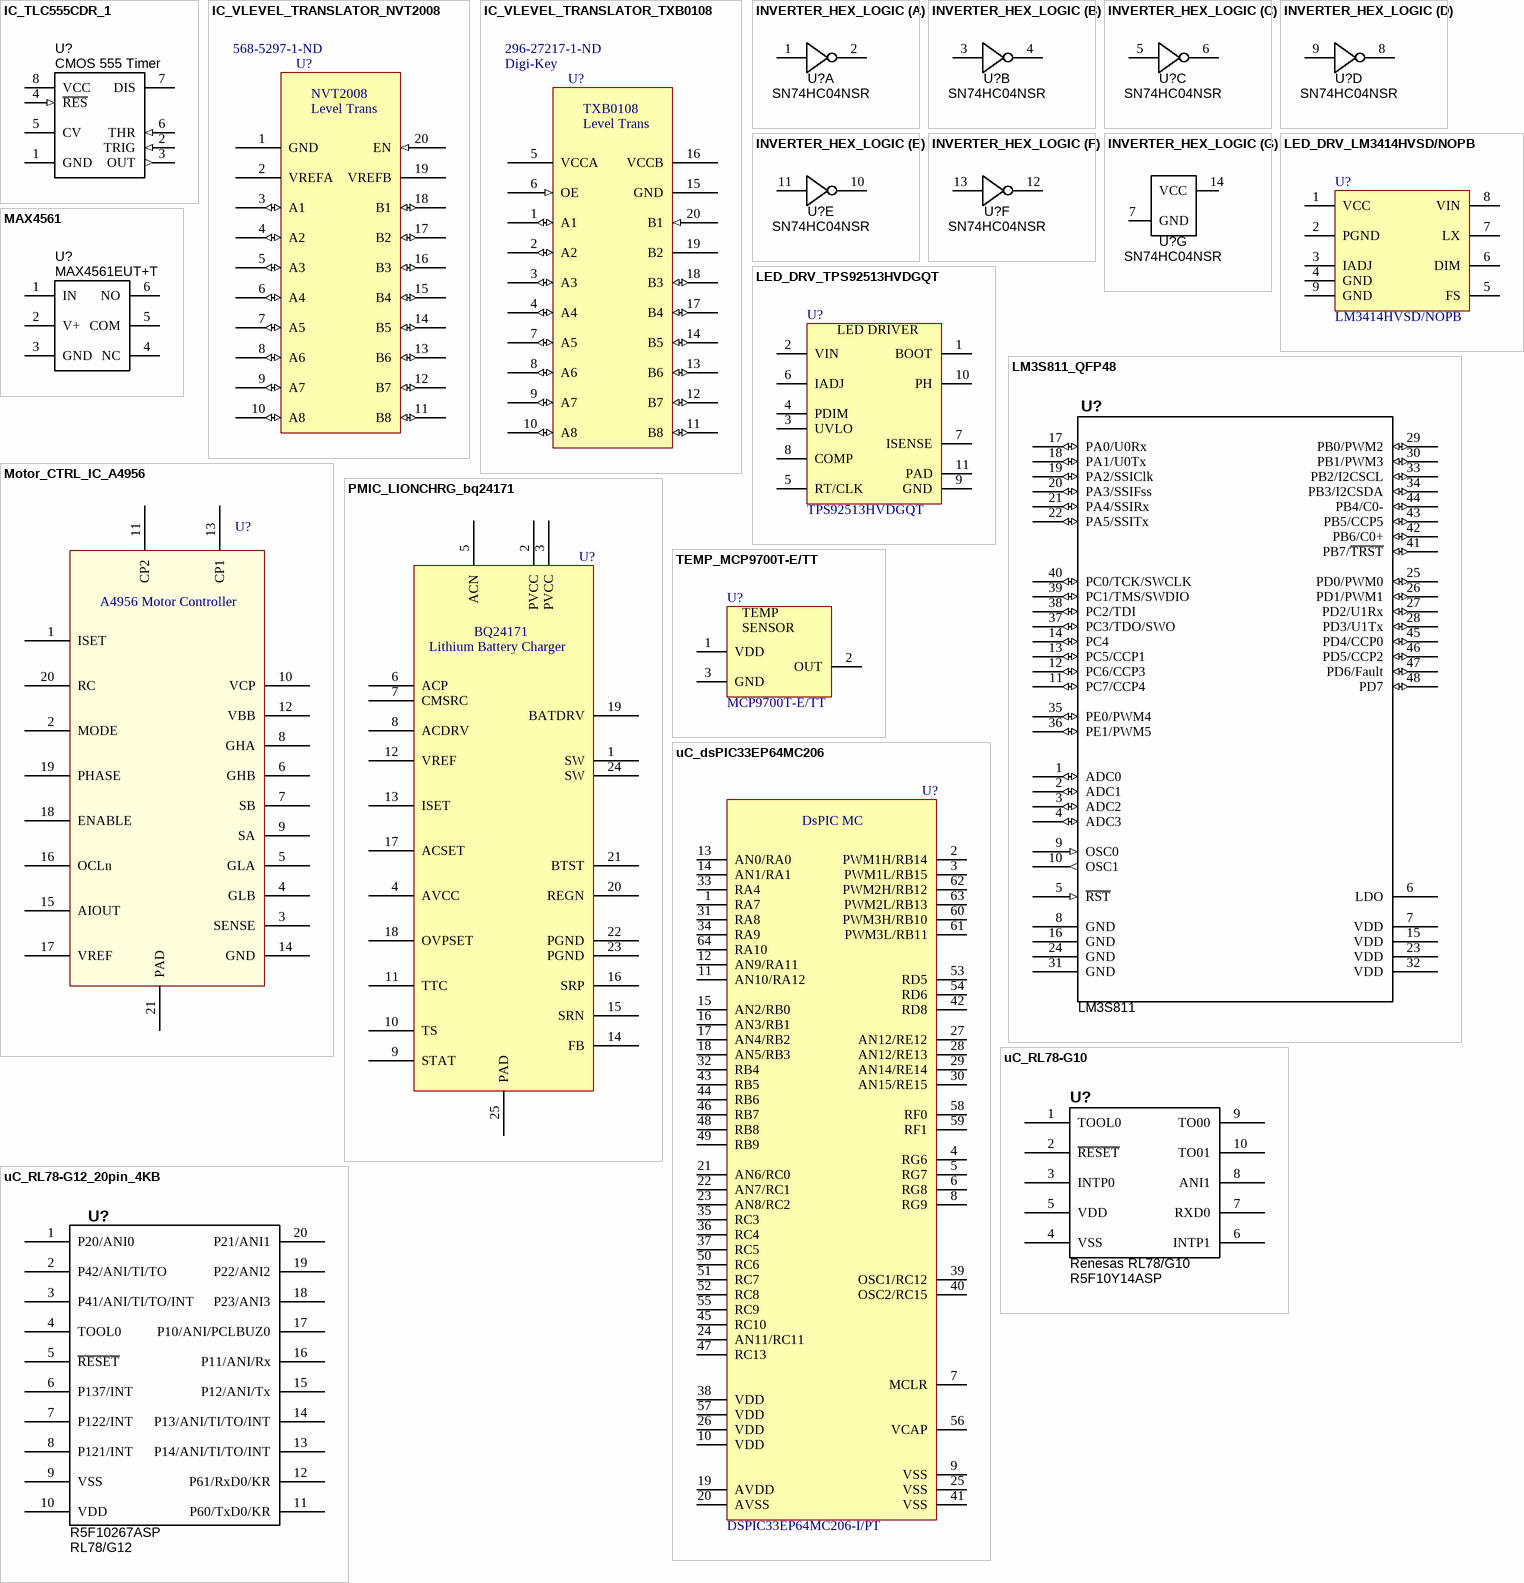
[diagram p2: symbols IC_TLC555CDR_1 to uC_RL78-G12_20pin_4KB]

## IC_TLC555CDR_1
designator U?, comment CMOS 555 Timer
IC CMOS 555 Timer SOIC-8 SMD; Manufacturer 1: Texas Instruments; Manufacturer Part Number 1: TLC555CDG4; Voltage - Supply: 4.5 - 16; Frequency: 2100kHz; Current - Supply: 180µA; SCDType: source; Package / Case: 8-SOIC (0.154", 3.90mm Width); Operating Temperature: 0°C ~ 70°C; Type: 555 Type, Timer/Oscillator (Single); Mounting Type: Surface Mount; Count: -; ComponentLink1URL: http://www.ti.com/lit/ds/symlink/tlc555.pdf; ComponentLink1Description: http://www.ti.com/lit/ds/symlink/tlc555.pdf; Supplier 1: Digi-Key; Supplier Part Number 1: TLC555CDG4-ND; RoHS 1: RoHS Compliant; Ratings: 2100kHz
footprint SOIC127P600X175-8AN (SOIC, 8-Leads, Body 4.9x3.9mm, Pitch 1.27mm, IPC Medium Density)
pins: 1 GND (power), 2 TRIG (in), 3 OUT (out), 4 ~{RES} (in), 5 CV, 6 THR (in), 7 DIS, 8 VCC (power)

## IC_VLEVEL_TRANSLATOR_NVT2008
designator U?, comment Supplier Part Number 1: 568-5297-1-ND  (hidden comment: NVT2008)
IC TRANSLATOR BIDIR VOLT 20TSSOP; Supplier 1: Digi-Key
footprint TSSOP65P640X120-20N (TSSOP, 20-Leads, Body 6.6x4.5mm (max), Pitch 0.65mm, IPC Medium Density)
footprint QFN50P250X450X100_HS-21M (QFN, 20-Leads, Body 2.50x4.50mm, Pitch 0.50mm, Thermal Pad 1.00x3.00mm, IPC Low Density)
pins: 1 GND (power), 2 VREFA (power), 3 A1 (io), 4 A2 (io), 5 A3 (io), 6 A4 (io), 7 A5 (io), 8 A6 (io), 9 A7 (io), 10 A8 (io), 11 B8 (io), 12 B7 (io), 13 B6 (io), 14 B5 (io), 15 B4 (io), 16 B3 (io), 17 B2 (io), 18 B1 (io), 19 VREFB (power), 20 EN (in)
text: Level Trans

## IC_VLEVEL_TRANSLATOR_TXB0108
designator U?, comment Supplier 1: Digi-Key  Supplier Part Number 1: 296-27217-1-ND  (hidden comment: TXB0108)
IC TRANSLATOR BIDIR VOLT UDFN 20
footprint UFDFN-20
pins: 1 A1 (io), 2 A2 (io), 3 A3 (io), 4 A4 (io), 5 VCCA (power), 6 OE (in), 7 A5 (io), 8 A6 (io), 9 A7 (io), 10 A8 (io), 11 B8 (io), 12 B7 (io), 13 B6 (io), 14 B5 (io), 15 GND (power), 16 VCCB (power), 17 B4 (io), 18 B3 (io), 19 B2 (power), 20 B1 (in)
text: Level Trans

## INVERTER_HEX_LOGIC
designator U?  Manufacturer Part Number 1: SN74HC04NSR  (hidden comment: *)
Inverter IC Logic-level 6 section SOP-14 SMD; Manufacturer 1: Texas Instruments; Current - Output High, Low: 5.2mA, 5.2mA; Voltage - Supply: 2 V ~ 6 V; Ratings: -40°C ~ 85°C; 5.2mA; SCDType: source*; Supplier 1: Digi-Key; Supplier Part Number 1: 296-12883-1-ND; Logic Type: Inverter; Mounting Type: Surface Mount; Package / Case: SOP-14
footprint SOIC127P780X200-14N (SOIC, 14 Leads, Body 10.5x3.9mm, Pitch 1.27mm, IPC Medium Density)
part A pins: 1 1A, 2 1Y
part B pins: 3 2A, 4 2Y
part C pins: 5 3A, 6 3Y
part D pins: 8 4Y, 9 4A
part E pins: 10 5Y, 11 5A
part F pins: 12 6Y, 13 6A
part G pins: 7 GND, 14 VCC

## LED_DRV_LM3414HVSD/NOPB
designator U?, comment LM3414HVSD/NOPB
LED Driver IC 1 Output DC DC Regulator Step-Down (Buck) Analog, PWM Dimming 1A 8-WSON (3x3); Manufacturer: TI National Semiconductor; Number of Outputs: 1; Output Voltage: 65V; Min Input Voltage: 4.5V; Frequency: 1MHz; Switching Frequency: 500kHz; Max Supply Current: 3.6mA; Quiescent Current: 3.3mA; Topology: Boost; Supplier 1: Digi-Key; Supplier Part Number 1: LM3414HVSD/NOPBDKR-ND; Stock 1: 35744; Pricing 1: 1=2.01, 10=1.807, 100=1.4524, 500=1.1933 (USD); Mount: Surface Mount; Number of Pins: 8; Min Operating Temperature: -40°C; Max Operating Temperature: 125°C; Output Current: 1A; Max Input Voltage: 65V; Packaging: Tape and Reel; Max Supply Voltage: 65V; Min Supply Voltage: 4.5V; Package Quantity: 1000; Length: 3mm; Height: 0.8mm; Width: 3mm; Radiation Hardening: No; REACH SVHC: No SVHC; Lead Free: Lead Free; ComponentLink1URL: https://datasheet.ciiva.com/26062/lm3414hv-26062775.pdf; ComponentLink1Description: https://datasheet.ciiva.com/26062/lm3414hv-26062775.pdf; ComponentLink2URL: https://datasheet.ciiva.com/1946/lm3414-1946091.pdf; ComponentLink2Description: https://datasheet.ciiva.com/1946/lm3414-1946091.pdf; ComponentLink3URL: https://datasheet.ciiva.com/1946/lm3414-1946092.pdf; ComponentLink3Description: https://datasheet.ciiva.com/1946/lm3414-1946092.pdf; ComponentLink4URL: https://datasheet.ciiva.com/1946/lm3414-1946093.pdf; ComponentLink4Description: https://datasheet.ciiva.com/1946/lm3414-1946093.pdf; Manufacturer Part Number: LM3414HVSD/NOPB
footprint SON50P300X90_HS-9M (SON, 8-Leads, Body 3.00x3.00mm, Pitch 0.50mm, Thermal Pad 2.00x1.49mm, IPC Low Density)
pins: 1 VCC, 2 PGND, 3 IADJ, 4 GND, 5 FS, 6 DIM, 7 LX, 8 VIN, 9 GND

## LED_DRV_TPS92513HVDGQT
designator U?, comment TPS92513HVDGQT
LED Driver IC 1 Output DC DC Regulator Step-Down (Buck) Analog, PWM Dimming 1.5A 10-MSOP-PowerPad; Manufacturer: Texas Instruments; Number of Outputs: 1; Max Supply Voltage: 60V; Output Voltage: 65V; Frequency: 2MHz; Min Input Voltage: 4.5V; Quiescent Current: 337uA; Supplier 1: Digi-Key; Supplier Part Number 1: 296-42114-6-ND; Stock 1: 4939; Pricing 1: 1=1.17, 10=1.048, 100=0.8173 (USD); Mount: Surface Mount; Case/Package: MSOP; Number of Pins: 10; Min Operating Temperature: -40°C; Max Operating Temperature: 125°C; Packaging: Cut Tape; Output Current per Channel: 1.5A; Output Current: 1.5A; Max Input Voltage: 60V; Switching Frequency: 2MHz; Dimming: Analog,PWM; REACH SVHC: No SVHC; Lead Free: Lead Free; ComponentLink1URL: http://www.ti.com/lit/gpn/tps92513hv; ComponentLink1Description: http://www.ti.com/lit/gpn/tps92513hv; ComponentLink2URL: http://www.ti.com/general/docs/lit/getliterature.tsp?genericPartNumber=TPS92513HV&&fileType=pdf; ComponentLink2Description: http://www.ti.com/general/docs/lit/getliterature.tsp?genericPartNumber=TPS92513HV&&fileType=pdf; ComponentLink3URL: http://www.ti.com/lit/ds/symlink/tps92513.pdf; ComponentLink3Description: http://www.ti.com/lit/ds/symlink/tps92513.pdf; Manufacturer Part Number: TPS92513HVDGQT
footprint TSSOP50P490X110_HS-11N (TSSOP, 10-Leads, Body 3.00x3.00mm, Pitch 0.50mm, Thermal Pad 1.83x1.89mm, IPC Medium Density)
pins: 1 BOOT, 2 VIN, 3 UVLO, 4 PDIM, 5 RT/CLK, 6 IADJ, 7 ISENSE, 8 COMP, 9 GND, 10 PH, 11 PAD
text: LED DRIVER

## LM3S811_QFP48
designator U?, comment LM3S811
IC ARM Cortex Microcontroller 64KB flash LQFP-48 SMD; Manufacturer 1: Texas Instruments; Manufacturer Part Number 1: LM3S811-IQN50-C2; Core Processor: ARM® Cortex-M3™; Core Size: 32-Bit; Speed: 50MHz; Connectivity: I²C, Microwire, SPI, SSI, UART/USART; Peripherals: Brown-out Detect/Reset, POR, PWM, WDT; Number of I /O: 32; Program Memory Size: 64KB (64K x 8); RAM Size: 8K x 8; Voltage - Supply (Vcc/Vdd): 3 V ~ 3.6 V; Data Converters: A/D 4x10b; Oscillator Type: Internal; Rule: UNIONINDEX{}0[]SOLDERMASKEXPANSIONMODE{}None[]PASTEMASKEXPANSIONMODE{}None[]RULEKIND{}Clearance[]NETSCOPE{}DifferentNets[]LAYERKIND{}SameLayer[]NAME{}Schematic Clearance Constraint[]GAP{}7.874mil[]UNIT{}Metric[]PcbType{}ProtelPcb; SCDType: spec*; Supplier 1: Digi-Key; Supplier Part Number 1: 296-24918-ND; Program Memory Type: FLASH; EEPROM Size: -; Operating Temperature: -40°C ~ 85°C; Package / Case: 48-LQFP; ComponentLink1URL: http://www.ti.com/lit/ds/symlink/lm3s811.pdf; ComponentLink1Description: http://www.ti.com/lit/ds/symlink/lm3s811.pdf
footprint LQFP-48_N (Thin QFP, 48-Leads, Body 7x7mm, Pitch 0.5mm, IPC Medium Density)
pins: 1 ADC0 (io), 2 ADC1 (io), 3 ADC2 (io), 4 ADC3 (io), 5 ~{RST} (in), 6 LDO, 7 VDD (power), 8 GND (power), 9 OSC0 (in), 10 OSC1 (out), 11 PC7/CCP4 (io), 12 PC6/CCP3 (io), 13 PC5/CCP1 (io), 14 PC4 (io), 15 VDD (power), 16 GND (power), 17 PA0/U0Rx (io), 18 PA1/U0Tx (io), 19 PA2/SSIClk (io), 20 PA3/SSIFss (io), 21 PA4/SSIRx (io), 22 PA5/SSITx (io), 23 VDD (power), 24 GND (power), 25 PD0/PWM0 (io), 26 PD1/PWM1 (io), 27 PD2/U1Rx (io), 28 PD3/U1Tx (io), 29 PB0/PWM2 (io), 30 PB1/PWM3 (io), 31 GND (power), 32 VDD (power), 33 PB2/I2CSCL (io), 34 PB3/I2CSDA (io), 35 PE0/PWM4 (io), 36 PE1/PWM5 (io), 37 PC3/TDO/SWO (io), 38 PC2/TDI (io), 39 PC1/TMS/SWDIO (io), 40 PC0/TCK/SWCLK (io), 41 PB7/~{TRST} (io), 42 PB6/C0+ (io), 43 PB5/CCP5 (io), 44 PB4/C0- (io), 45 PD4/CCP0 (io), 46 PD5/CCP2 (io), 47 PD6/Fault (io), 48 PD7 (io)

## MAX4561
designator U?  Manufacturer Part Number 1: MAX4561EUT+T
IC SMD Analog Switch SOT23-6; Manufacturer 1: Maxim Integrated Products; Ratings: 10mA 12V Max; SCDType: source/; Package / Case: SOT-23-6; Supplier 1: Digi-Key; Supplier Part Number 1: MAX4561EUT+TCT-ND
footprint SOT23-6
pins: 1 IN, 2 V+, 3 GND, 4 NC, 5 COM, 6 NO

## Motor_CTRL_IC_A4956
designator U?, comment A4956  (value not drawn)
PWM Motor Controller; Supplier 1: Digi-Key; Supplier Part Number 1: 620-1772-1-ND
footprint QFN-20 - 8mil Pad Spacing
pins: 1 ISET, 2 MODE, 3 SENSE, 4 GLB, 5 GLA, 6 GHB, 7 SB, 8 GHA, 9 SA, 10 VCP, 11 CP2, 12 VBB, 13 CP1, 14 GND, 15 AIOUT, 16 OCLn, 17 VREF, 18 ENABLE, 19 PHASE, 20 RC, 21 PAD
text: A4956 Motor Controller

## PMIC_LIONCHRG_bq24171
designator U?, comment BQ24171  (value not drawn)
IC BATT CHARGE LI-ION/POL 24VQFN; Supplier 1: Digi-Key; Supplier Part Number 1: 296-41205-1-ND
footprint R-PVQFN-N24
pins: 1 SW, 2 PVCC, 3 PVCC, 4 AVCC, 5 ACN, 6 ACP, 7 CMSRC, 8 ACDRV, 9 STAT, 10 TS, 11 TTC, 12 VREF, 13 ISET, 14 FB, 15 SRN, 16 SRP, 17 ACSET, 18 OVPSET, 19 BATDRV, 20 REGN, 21 BTST, 22 PGND, 23 PGND, 24 SW, 25 PAD
text: Lithium Battery Charger

## TEMP_MCP9700T-E/TT
designator U?, comment MCP9700T-E/TT
Temperature Sensor Analog, Local -40°C ~ 125°C 10mV/°C SOT-23-3; Manufacturer: Microchip Technology; Output Type: Analog Voltage; Voltage - Supply: 2.3 V ~ 5.5 V; Accuracy - Highest (Lowest): ±2°C (-4°C, +6°C); Test Condition: 0°C ~ 70°C (-40°C ~ 125°C); Supplier 1: Digi-Key; Supplier Part Number 1: MCP9700T-E/TTCT-ND; RoHS: RoHS Compliant; Category: Sensors, Transducers; Stock 1: 14982; Pricing 1: 1=0.26, 25=0.2164 (USD); Packaging: Cut Tape (CT); Part Status: Active; Sensor Type: Analog, Local; Sensing Temperature - Local: -40°C ~ 125°C; Sensing Temperature - Remote: -; Resolution: 10mV/°C; Features: -; Operating Temperature: -40°C ~ 125°C; Mounting Type: Surface Mount; Package / Case: TO-236-3, SC-59, SOT-23-3; Supplier Device Package: SOT-23-3; ComponentLink1URL: http://www.microchip.com/mymicrochip/filehandler.aspx?ddocname=en022859; ComponentLink1Description: http://www.microchip.com/mymicrochip/filehandler.aspx?ddocname=en022859; Manufacturer Part Number: MCP9700T-E/TT
footprint SOT23-3 (SOT23, 3 pin)
pins: 1 VDD, 2 OUT, 3 GND
text: TEMP; SENSOR

## uC_dsPIC33EP64MC206
designator U?  (value not drawn)
DSPIC33EP64MC206-I/PT; Manufacturer: Microchip Technology; Core Processor: dsPIC; Core Size: 16-Bit; Speed: 70 MIPs; Connectivity: I²C, IrDA, LIN, QEI, SPI, UART/USART; Peripherals: Brown-out Detect/Reset, DMA, Motor Control PWM, POR, PWM, WDT; Program Memory Size: 64KB (22K x 24); Program Memory Type: FLASH; RAM Size: 4K x 16; Voltage - Supply (Vcc/Vdd): 3 V ~ 3.6 V; Data Converters: A/D 16x10b/12b; Oscillator Type: Internal; Supplier 1: Digi-Key; Supplier Part Number 1: DSPIC33EP64MC206-I/PT-ND; RoHS: RoHS Compliant; Category: Integrated Circuits (ICs); Stock 1: 6; Pricing 1: 1=3.03, 25=2.7824, 100=2.52 (USD); Packaging: Tray; Part Status: Active; EEPROM Size: -; Operating Temperature: -40°C ~ 85°C (TA); Package / Case: 64-TQFP; Supplier Device Package: 64-TQFP (10x10); ComponentLink1URL: http://www.microchip.com/mymicrochip/filehandler.aspx?ddocname=en556386; ComponentLink1Description: http://www.microchip.com/mymicrochip/filehandler.aspx?ddocname=en556386; Manufacturer Part Number: DSPIC33EP64MC206-I/PT
footprint LQFP50P1200X1200X160-64 (Thin Quad Flat Pack, 64 pins, 0.5mm pitch, 12mm lead span, body 10x10mm, 0.1mm body height, max tolerances, IPC Medium Density)
pins: 1 RA7, 2 PWM1H/RB14, 3 PWM1L/RB15, 4 RG6, 5 RG7, 6 RG8, 7 MCLR, 8 RG9, 9 VSS, 10 VDD, 11 AN10/RA12, 12 AN9/RA11, 13 AN0/RA0, 14 AN1/RA1, 15 AN2/RB0, 16 AN3/RB1, 17 AN4/RB2, 18 AN5/RB3, 19 AVDD, 20 AVSS, 21 AN6/RC0, 22 AN7/RC1, 23 AN8/RC2, 24 AN11/RC11, 25 VSS, 26 VDD, 27 AN12/RE12, 28 AN12/RE13, 29 AN14/RE14, 30 AN15/RE15, 31 RA8, 32 RB4, 33 RA4, 34 RA9, 35 RC3, 36 RC4, 37 RC5, 38 VDD, 39 OSC1/RC12, 40 OSC2/RC15, 41 VSS, 42 RD8, 43 RB5, 44 RB6, 45 RC10, 46 RB7, 47 RC13, 48 RB8, 49 RB9, 50 RC6, 51 RC7, 52 RC8, 53 RD5, 54 RD6, 55 RC9, 56 VCAP, 57 VDD, 58 RF0, 59 RF1, 60 PWM3H/RB10, 61 PWM3L/RB11, 62 PWM2H/RB12, 63 PWM2L/RB13, 64 RA10
text: DsPIC MC

## uC_RL78-G10
designator U?, comment Renesas RL78/G10  Manufacturer Part Number 1: R5F10Y14ASP
Microcontroller Renesas 16-bit 1KB TSSOP-10 SMD; SCDType: source; Manufacturer 1: Renesas; Package / Case: TSSOP-10; Material: Si; ComponentLink1URL: http://documentation.renesas.com/doc/products/mpumcu/doc/rl78/r01ds0207ej0100_rl78g10ds.pdf; ComponentLink1Description: RL78/G10 Datasheet
footprint TSSOP65P640X120-10N (TSSOP, 10 Leads, Body 3.7x4.5mm (max), Pitch 0.65mm, IPC Medium Density)
pins: 1 TOOL0, 2 ~{RESET} "Reset input", 3 INTP0 "Interrupt", 4 VSS (power) "GND", 5 VDD (power), 6 INTP1 "Interrups", 7 RXD0 "Serial RX", 8 ANI1 "Analog Input", 9 TO00 "Timer output", 10 TO01 "Timer output"

## uC_RL78-G12_20pin_4KB
designator U?, comment R5F10267ASP  Core Processor: RL78/G12
IC Renesas 16-Bit Single-Chip Microcontroller 4KB flash LSSOP-20 SMD; Manufacturer 1: Renesas Electronics America; Manufacturer Part Number 1: R5F10267ASP#V0; Voltage - Supply (Vcc/Vdd): 1.8 V ~ 5.5 V; Value: 4KB ROM Flash; 2KB Data Flash; 512B RAM; SCDType: undef; Speed: 24MHz; Connectivity: CSI, I²C, UART/USART; Peripherals: DMA, POR, PWM, WDT; Number of I /O: 18; Program Memory Size: 4KB (4K x 8); RAM Size: 512 x 8; Data Converters: A/D 11x8/10b; Oscillator Type: Internal; Package / Case: LSSOP-20; Operating Temperature: -40°C ~ 85°C; Supplier 1: Digi-Key; Supplier Part Number 1: R5F10267ASP#V0-ND; RoHS 1: RoHS Compliant; Core Size: 16-Bit; Program Memory Type: FLASH; EEPROM Size: -; ComponentLink1URL: http://documentation.renesas.com/doc/products/mpumcu/doc/rl78/r01ds0193ej0200_rl78g12.pdf; ComponentLink1Description: http://documentation.renesas.com/doc/products/mpumcu/doc/rl78/r01ds0193ej0200_rl78g12.pdf
footprint LSSOP65P640X145-20N (LSSOP, 20-Leads, Body 6.6x4.5mm (max), Pitch 0.65mm, IPC Medium Density)
pins: 1 P20/ANI0 "Port 2:0, Analog Input 0", 2 P42/ANI/TI/TO "Port 4:2", 3 P41/ANI/TI/TO/INT "Interrupt 1", 4 TOOL0 "Data IO for Tool", 5 ~{RESET} "Reset", 6 P137/INT "Interrupt 0", 7 P122/INT "Interrupt 2", 8 P121/INT "Interrupt 3", 9 VSS "Ground", 10 VDD "Power Supply", 11 P60/TxD0/KR "Serial Tx", 12 P61/RxD0/KR "Serial Rx", 13 P14/ANI/TI/TO/INT "Timer Output 1", 14 P13/ANI/TI/TO/INT "Timer Output 0", 15 P12/ANI/Tx "Port 1:2", 16 P11/ANI/Rx "Port 1:1", 17 P10/ANI/PCLBUZ0 "Buzzer Output", 18 P23/ANI3 "Port 2:3, Analog Input 3", 19 P22/ANI2 "Port 2:2, Analog Input 2", 20 P21/ANI1 "Port 2:1, Analog Input 1"
1 alternate drawing of the same symbol

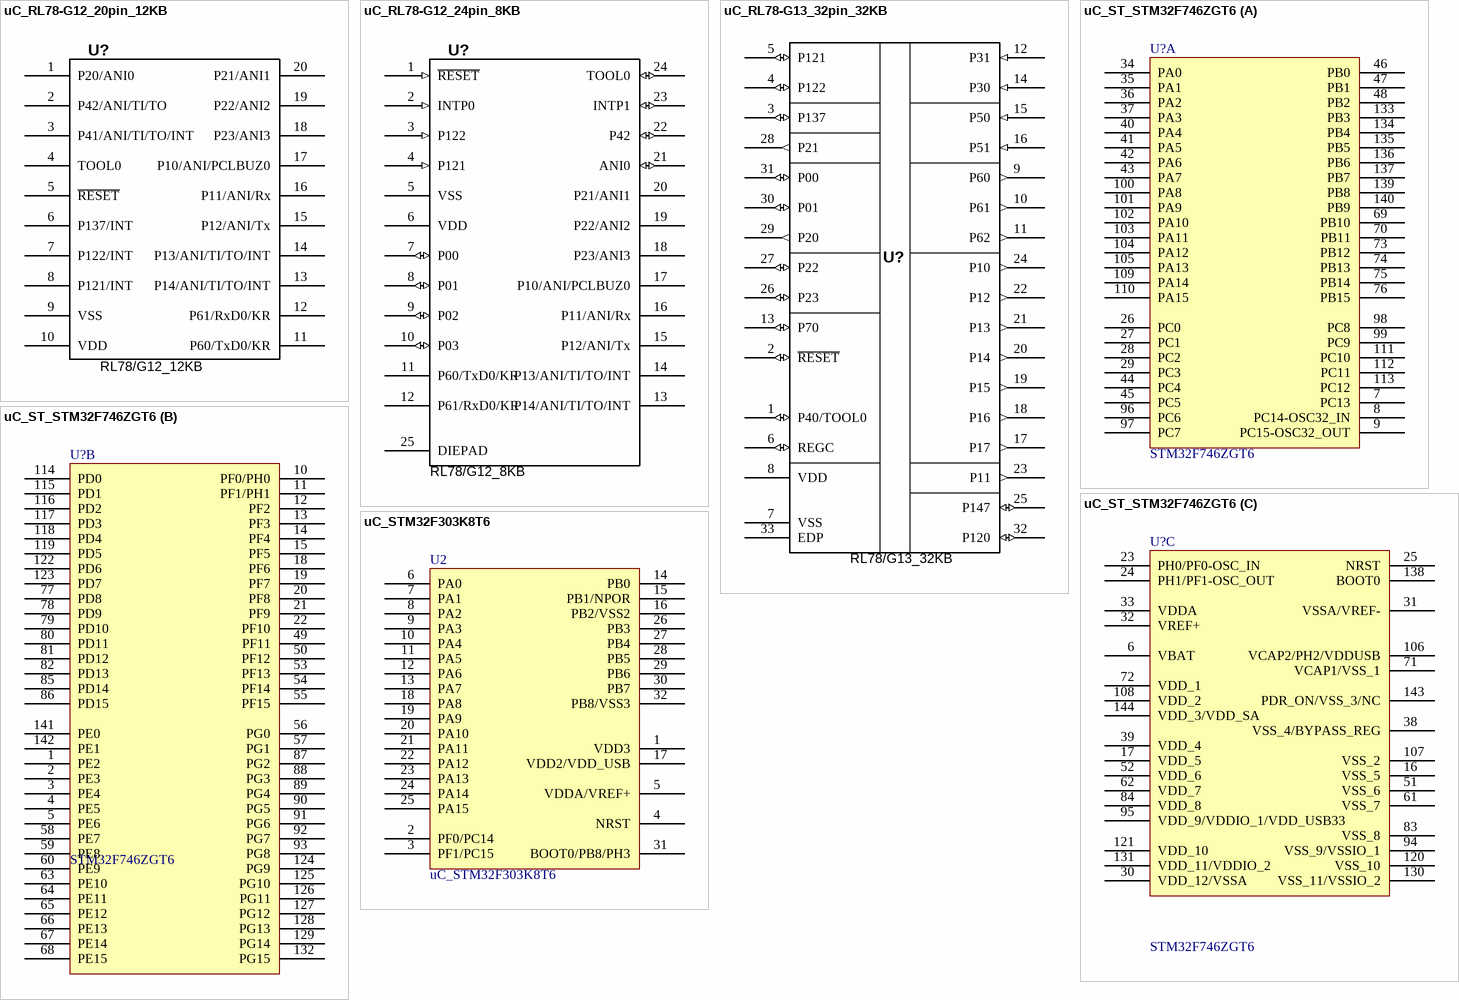
[diagram p3: symbols uC_RL78-G12_20pin_12KB to uC_STM32F303K8T6]

## uC_RL78-G12_20pin_12KB
designator U?, comment RL78/G12_12KB
IC Renesas 16-Bit Single-Chip Microcontroller 12KB flash LSSOP-20 SMD; Manufacturer 1: Renesas Electronics America; Manufacturer Part Number 1: R5F10269ASP#V0; Voltage - Supply (Vcc/Vdd): 1.8 V ~ 5.5 V; Value: 12KB ROM; 2KB DATA; 1KB RAM; SCDType: undef; Package / Case: LSSOP-20; Core Processor: RL78/G12; Operating Temperature: -40°C ~ 85°C; Supplier 1: Digi-Key; Supplier Part Number 1: R5F10269ASP#V0-ND; ComponentLink1URL: http://documentation.renesas.com/doc/products/mpumcu/doc/rl78/r01uh0200ej0100_rl78g12.pdf; ComponentLink1Description: http://documentation.renesas.com/doc/products/mpumcu/doc/rl78/r01uh0200ej0100_rl78g12.pdf
footprint LSSOP65P640X145-20N (LSSOP, 20-Leads, Body 6.6x4.5mm (max), Pitch 0.65mm, IPC Medium Density)
pins: 1 P20/ANI0 "Port 2:0, Analog Input 0", 2 P42/ANI/TI/TO "Port 4:2", 3 P41/ANI/TI/TO/INT "Interrupt 1", 4 TOOL0 "Data IO for Tool", 5 ~{RESET} "Reset", 6 P137/INT "Interrupt 0", 7 P122/INT "Interrupt 2", 8 P121/INT "Interrupt 3", 9 VSS "Ground", 10 VDD "Power Supply", 11 P60/TxD0/KR "Serial Tx", 12 P61/RxD0/KR "Serial Rx", 13 P14/ANI/TI/TO/INT "Timer Output 1", 14 P13/ANI/TI/TO/INT "Timer Output 0", 15 P12/ANI/Tx "Port 1:2", 16 P11/ANI/Rx "Port 1:1", 17 P10/ANI/PCLBUZ0 "Buzzer Output", 18 P23/ANI3 "Port 2:3, Analog Input 3", 19 P22/ANI2 "Port 2:2, Analog Input 2", 20 P21/ANI1 "Port 2:1, Analog Input 1"
1 alternate drawing of the same symbol

## uC_RL78-G12_24pin_8KB
designator U?, comment RL78/G12_8KB
IC Renesas 16-Bit Single-Chip Microcontroller 8KB flash WQFN-24 SMD; Manufacturer Part Number 1: R5F10278ANA#U0; Voltage - Supply (Vcc/Vdd): 1.8 V ~ 5.5 V; Rule: UNIONINDEX{}0[]SOLDERMASKEXPANSIONMODE{}None[]PASTEMASKEXPANSIONMODE{}None[]RULEKIND{}Clearance[]NETSCOPE{}DifferentNets[]LAYERKIND{}SameLayer[]NAME{}Schematic Clearance Constraint[]GAP{}9.8425mil[]UNIT{}Imperial[]PcbType{}ProtelPcb; Value: 8KB ROM; 2KB DATA; 768B RAM; SCDType: source; Speed: 24MHz; Connectivity: CSI, I²C, UART/USART; Peripherals: DMA, POR, PWM, WDT; Number of I /O: 22; Program Memory Size: 8KB (8K x 8); RAM Size: 768 x 8; Data Converters: A/D 11x8/10b; Oscillator Type: Internal; Package / Case: WQFN-24; Core Processor: RL78/G12; Operating Temperature: -40°C ~ 85°C; Supplier 1: Arrow; Supplier Part Number 1: 51233983S156327N4664; Manufacturer 1: Renesas; Supplier 2: Digi-Key; Supplier Part Number 2: R5F10278ANA#U0-ND; Manufacturer 2: Renesas Electronics America; Manufacturer Part Number 2: R5F10278ANA#U0; RoHS 2: RoHS Compliant; Core Size: 16-Bit; Program Memory Type: FLASH; EEPROM Size: -; ComponentLink1URL: http://documentation.renesas.com/doc/products/mpumcu/doc/rl78/r01ds0193ej0200_rl78g12.pdf; ComponentLink1Description: http://documentation.renesas.com/doc/products/mpumcu/doc/rl78/r01ds0193ej0200_rl78g12.pdf
footprint QFN50P400X400X80-25N (QFN, 24-Leads with exposed die pad, Body 4.05x4.05mm (max), Pitch 0.50mm, IPC Medium Density)
pins: 1 ~{RESET} (in) "P125", 2 INTP0 (in) "P137", 3 P122 (in), 4 P121 (in), 5 VSS (power), 6 VDD (power), 7 P00 (io), 8 P01 (io), 9 P02 (io), 10 P03 (io), 11 P60/TxD0/KR "Serial Tx", 12 P61/RxD0/KR "Serial Rx", 13 P14/ANI/TI/TO/INT "Timer Output 1", 14 P13/ANI/TI/TO/INT "Timer Output 0", 15 P12/ANI/Tx "Port 1:2", 16 P11/ANI/Rx "Port 1:1", 17 P10/ANI/PCLBUZ0 "Buzzer Output", 18 P23/ANI3 "Port 2:3, Analog Input 3", 19 P22/ANI2 "Port 2:2, Analog Input 2", 20 P21/ANI1 "Port 2:1, Analog Input 1", 21 ANI0 (io) "P20", 22 P42 (io), 23 INTP1 (io) "P41", 24 TOOL0 (io) "P40", 25 DIEPAD (power) "Exposed thermal pad"
1 alternate drawing of the same symbol